# Altium footprint library BSS138.PcbLib: 1 footprints
Each footprint in its own frame and in the unit in brackets; x right, y up, seen from the top. Pads: shape width x height; smd on the part's side, far side on the other; paste and mask are expansions set on the pad; w line width, h text height; cw(c..) or ccw(c..) is an arc to the next point about the centre after c.
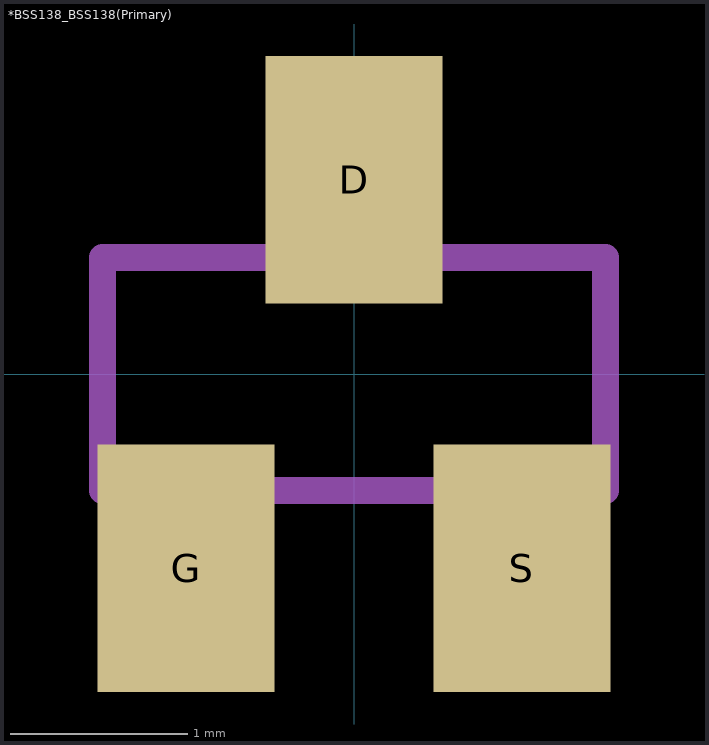
[diagram p0: the footprint, top view; thin cyan lines are the x and y axes]

## *BSS138_BSS138(Primary) [mm]
pads (3):
  rect 1x1.4 smd: D(0,1.1) G(-0.95,-1.1) S(0.95,-1.1)
Mechanical 4:
  region: -1.169,-0.711 -0.711,-0.711 -0.711,-1.296 -1.169,-1.296
  region: 0.712,-0.711 1.168,-0.711 1.168,-1.298 0.712,-1.298
  region: -1.169,-0.711 -0.711,-0.711 -0.711,-1.296 -1.169,-1.296
  region: 0.712,-0.711 1.168,-0.711 1.168,-1.298 0.712,-1.298
  lines w0.152: -1.422,-0.66 -1.422,0.66 ; -1.422,-0.66 1.422,-0.66 ; -1.422,-0.66 -1.422,0.66 ; -1.422,-0.66 1.422,-0.66 ; -1.422,0.66 1.422,0.66 ; -1.422,0.66 1.422,0.66 ; 1.422,-0.66 1.422,0.66 ; 1.422,-0.66 1.422,0.66